# Altium schematic symbol library res0402.SchLib: 1 symbol
Pins are listed as number, name and electrical type; pins without a type are passive.

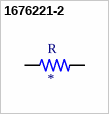
[diagram p0: symbol 1676221-2]

## 1676221-2
designator R
RES SMD 1K OHM 0.1% 1/10W 0805; MF: TE Connectivity; MP: 1676221-2; Power_Rating: .1 W; Tolerance: .1%; Voltage_Rating: 100 V; Package: 0805; EU_RoHS_Compliance: Compliant; Value: *; TE_purchase_URL: https://www.te.com/usa-en/product-1676221-2.html?te_bu=Cor&te_type=disp&te_campaign=seda_glo_cor-seda-global-disp-prtnr-fy19-seda-model-bom-cta_sma-317_1&elqCampaignId=32493; Resistance: 1K; Price: None; Availability: Unavailable; SnapEDA_Link: https://www.snapeda.com/parts/1676221-2/TE%20Connectivity/view-part/2211096/?ref=snap
footprint RESC2012X65N
pins: 1, 2